# EAGLE library part HI-V_POT_V1 (library PedalSync_Module_Footprint_Library_v2)
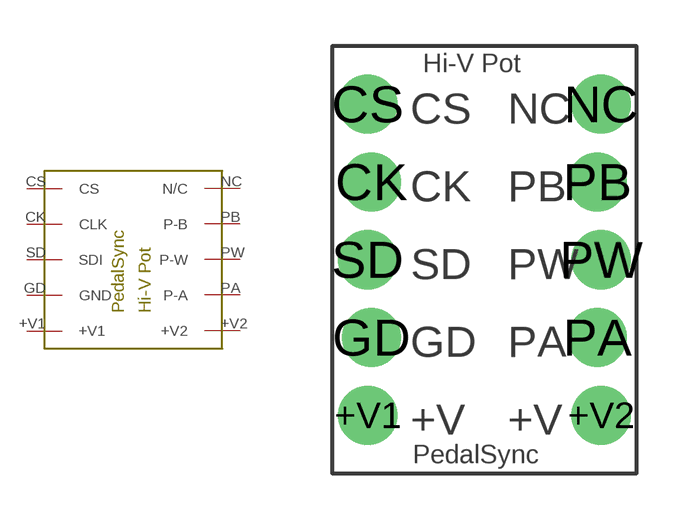
[diagram p2: symbol with the pads of HI-V_POT_V1; footprint HI-V_POT_V1]

Designator prefix -

## HI-V_POT_V1  [HI-V_POT_V1]
+V1  +V1
+V2  +V2
CK  CLK
CS  CS
GD  GND
NC  N/C
PA  P-A
PB  P-B
PW  P-W
SD  SDI

## Footprint HI-V_POT_V1 (pad centres in mm)
drill 0.9 pad 1.93 round: +V1 1.143,1.905; +V2 8.763,1.905; CK 1.27,9.525; CS 1.143,12.065; GD 1.27,4.445; NC 8.763,12.065; PA 8.636,4.445; PB 8.636,9.525; PW 8.763,6.985; SD 1.143,6.985